# Altium footprint library TC33X-2-104E.PcbLib: 1 footprints
Each footprint in its own frame and in the unit in brackets; x right, y up, seen from the top. Pads: shape width x height; smd on the part's side, far side on the other; paste and mask are expansions set on the pad; w line width, h text height; cw(c..) or ccw(c..) is an arc to the next point about the centre after c.
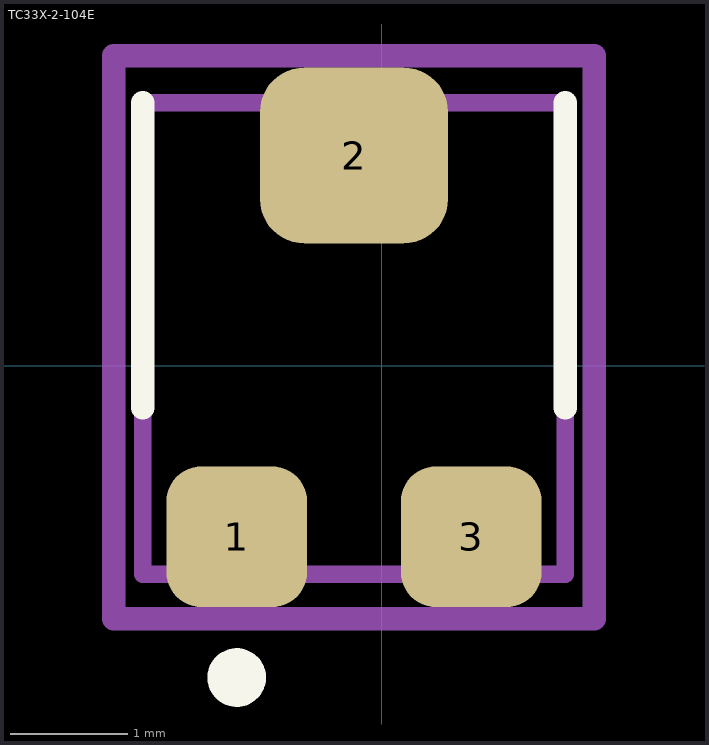
[diagram p0: the footprint, top view; thin cyan lines are the x and y axes]

## TC33X-2-104E [mm]
pads (3):
  rrect50% 1.2x1.2 smd paste+0 mask+0: 1(-1.236,-1.459) 3(0.764,-1.459)
  rrect50% 1.6x1.5 smd paste+0 mask+0: 2(-0.236,1.791)
Top Overlay:
  circle w0.25: c-1.236,-2.659 r0.125
  lines w0.2: -2.036,-0.359 -2.036,2.241 ; 1.564,-0.359 1.564,2.241
Top Assembly:
  lines w0.15: -2.036,-1.778 -2.036,2.241 1.564,2.241 1.564,-1.778 -2.036,-1.778
  text "'.Designator'" at -1.651,0 h0.5
Top Courtyard:
  lines w0.2: -2.286,-2.159 -2.286,2.641 1.814,2.641 1.814,-2.159 -2.286,-2.159
3D body "TC-33X-2.stp": height 1.13, standoff -0.02, extent -2.058,-1.767 1.542,2.195